# Altium integrated library Linear Technology Power Management Switching Regulator LTC1174-LTC3901.IntLib: 2647 symbols (part 302 of 364)
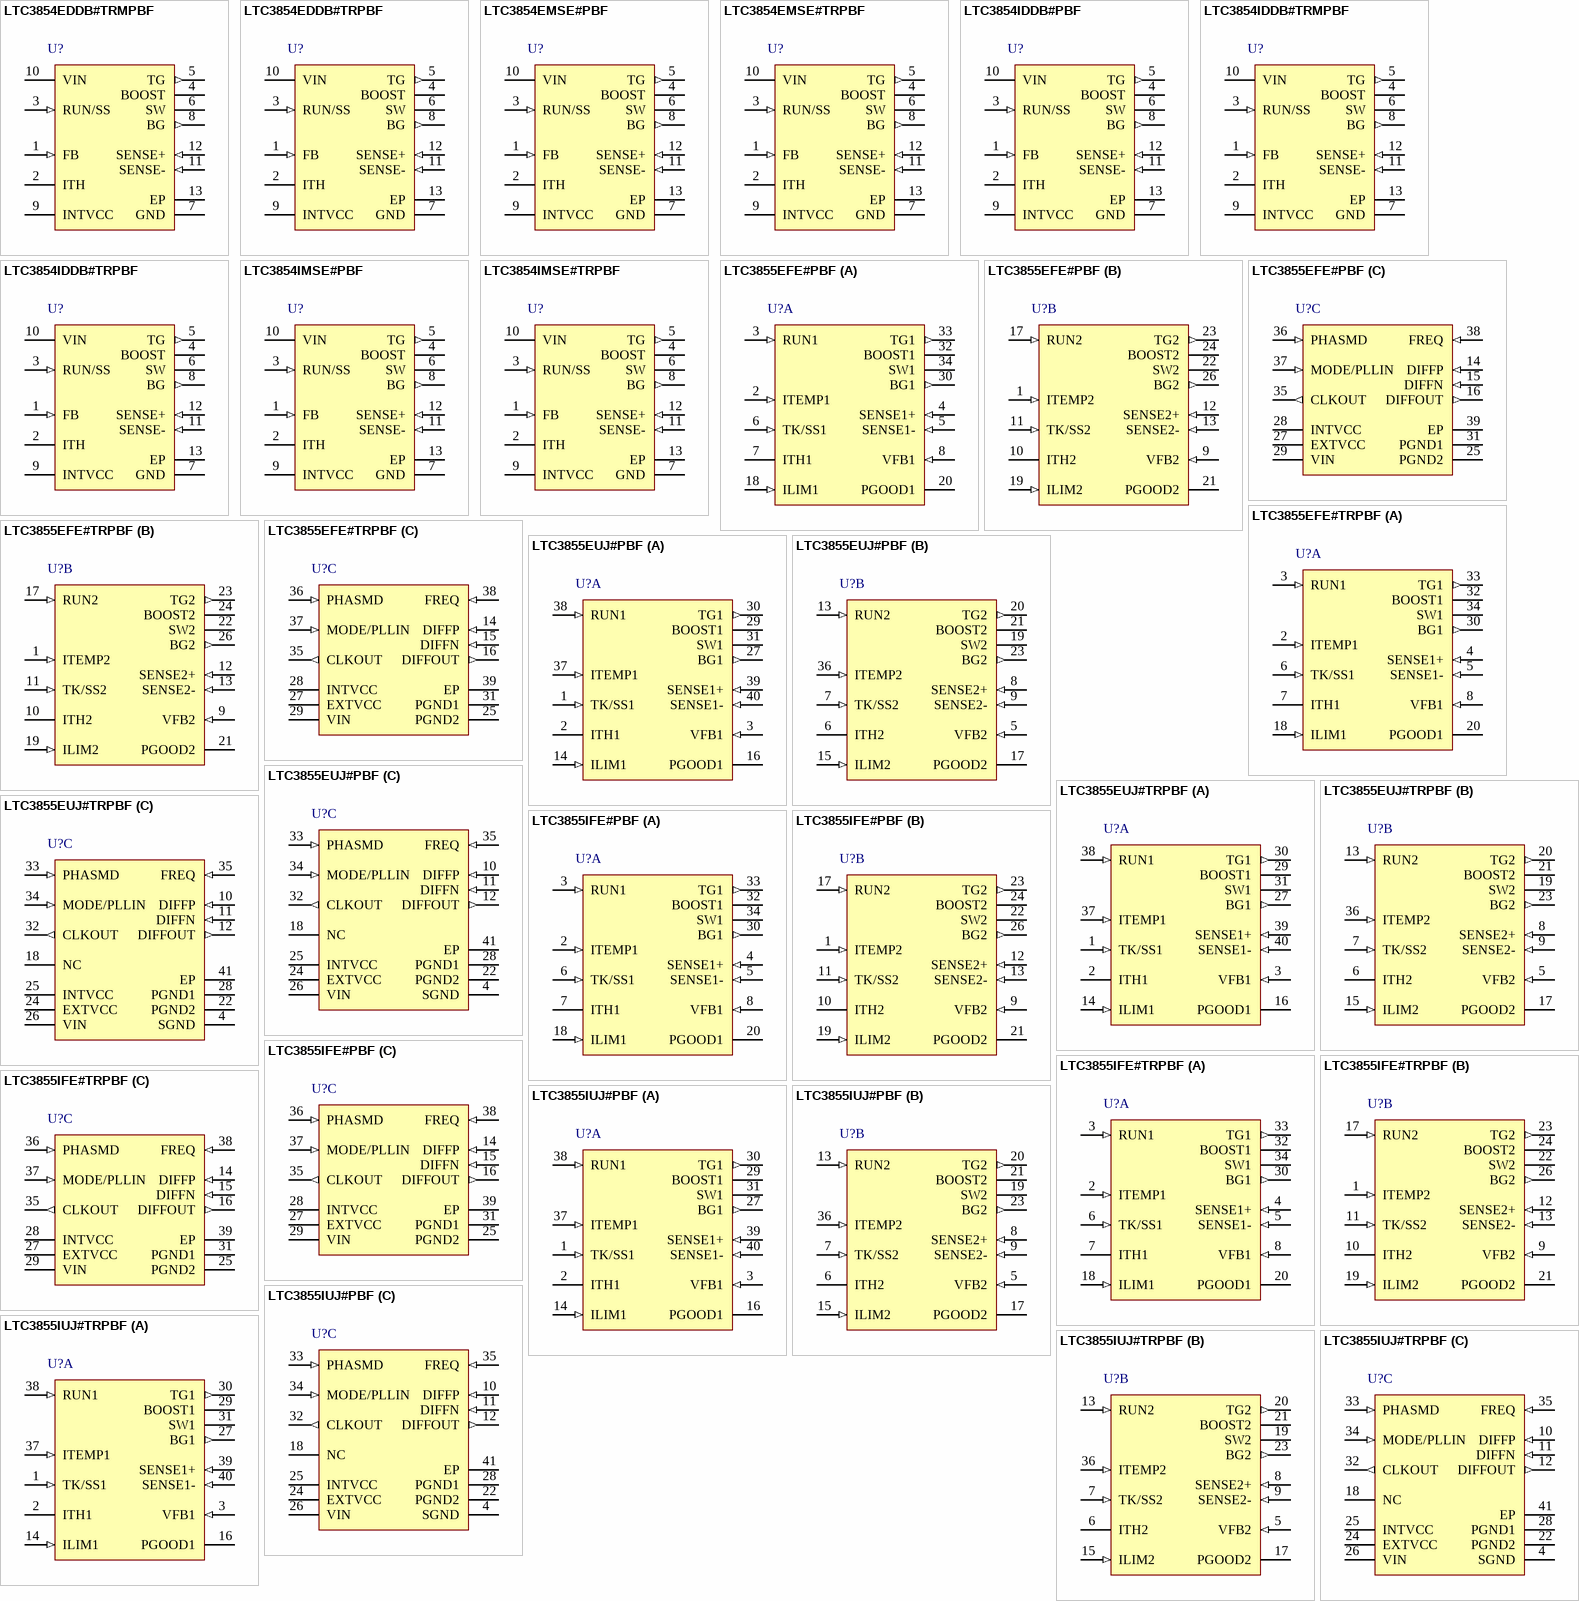
[diagram p273: symbols LTC3854EDDB#TRMPBF to LTC3855IUJ#TRPBF]

## LTC3854IDDB#PBF
designator U?
Small Package Range Synchronous Step-Down Controller, 4.5 to 38 V Vin, 12-pin SON (DDB-12), -40 to 85 degC, Pb-Free; Manufacturer: Linear Technology; PartNumber: LTC3854IDDB#PBF; Number of Outputs: 1; DatasheetVersion: Rev. B; PackageVersion: Rev. Ø, 06/2010; PackageReference: DDB-12; PackageDescription: 12-Pin Plastic DFN, Body 3 x 2 mm, Pitch 0.45 mm; Supplier 1: Newark; Supplier Part Number 1: 78T3268; RoHS: TRUE; Mounting Technology: Surface Mount; ComponentLink1Description: Manufacturer URL; ComponentLink1URL: http://www.linear.com/; ComponentLink2Description: Datasheet; ComponentLink2URL: http://cds.linear.com/docs/en/datasheet/3854fb.pdf; ComponentLink3Description: Package Specification; ComponentLink3URL: http://cds.linear.com/docs/en/packaging/DFN_12_05-08-1723.pdf
footprint LT-DDB-12_V (SON, 12-Leads, Body 3x2mm, Pitch 0.45mm, Thermal Pad 2.39x0.64mm)
pins: 1 FB (in) "Error Amplifier Feedback Input. This pin receives the remotely-sensed feedback voltage from an external resistor divider across the output.", 2 ITH "Error Amplifier Output and Switching Regulator Compensation Point. The current comparator trip point increases with this control voltage.", 3 RUN/SS (in) "Run Control, Soft-Start. If the voltage on this pin is held below 0.4V, the part is in shutdown. If the pin is released the capacitance to ground at this pin sets the soft-start ramp rate. An internal 1.25uA soft-start (See Datasheet)", 4 BOOST "Bootstrapped Supply to the Top Side Floating Driver. A low ESR capacitor is connected between the BOOST and SW pins and an external Schottky diode is tied between the BOOST and INTVCC pins. The voltage swing on the BOOST pin (See Datasheet)", 5 TG (out) "High Current Gate Drive for Top N-channel MOSFET. This is the output of floating driver with a voltage swing equal to INTVCC superimposed on the switch node voltage.", 6 SW "Switch Node Connection to Inductor. The voltage swing on this pin is from a Schottky diode (external) forward voltage (when this diode is added across the Nchannel synchronous MOSFET) below ground to VIN.", 7 GND (power) "Small Signal and Power Ground. This is the high current ground for the gate driver. The internal signal ground is Kelvin connected to this pin for noise suppression.", 8 BG (out) "High Current Gate Drive for Bottom (Synchronous) N-channel MOSFET. The voltage swing at this pin is from ground to INTVCC.", 9 INTVCC (power) "Output of the Internal 5V Low Dropout Regulator. The driver and control circuits are powered from this voltage. Must be decoupled to power ground with a minimum of 2.2uF low ESR ceramic capacitor (X5R or better).", 10 VIN (power) "Main Supply Pin. A bypass capacitor should be tied between this pin and the signal ground pin.", 11 SENSE- (in) "The (-) Input to the Differential Current Comparator.", 12 SENSE+ (in) "The (+) Input to the Differential Current Comparator. The ITH pin voltage and controlled offsets between the SENSE- and SENSE+ pins in conjunction with RSENSE (or RDCR) set the peak current trip threshold.", 13 EP (power) "The exposed pad must be soldered to PCB ground for electrical contact and rated thermal performance."

## LTC3854IDDB#TRMPBF
designator U?
Small Package Range Synchronous Step-Down Controller, 4.5 to 38 V Vin, 12-pin SON (DDB-12), -40 to 85 degC, Pb-Free, Tape and Reel; Manufacturer: Linear Technology; PartNumber: LTC3854IDDB#TRMPBF; Number of Outputs: 1; DatasheetVersion: Rev. B; PackageVersion: Rev. Ø, 06/2010; PackageReference: DDB-12; PackageDescription: 12-Pin Plastic DFN, Body 3 x 2 mm, Pitch 0.45 mm; Supplier 1: Digi-Key; Supplier Part Number 1: LTC3854IDDB#TRMPBF-ND; Packing: Tape and Reel; RoHS: TRUE; Mounting Technology: Surface Mount; ComponentLink1Description: Manufacturer URL; ComponentLink1URL: http://www.linear.com/; ComponentLink2Description: Datasheet; ComponentLink2URL: http://cds.linear.com/docs/en/datasheet/3854fb.pdf; ComponentLink3Description: Package Specification; ComponentLink3URL: http://cds.linear.com/docs/en/packaging/DFN_12_05-08-1723.pdf
footprint LT-DDB-12_V (SON, 12-Leads, Body 3x2mm, Pitch 0.45mm, Thermal Pad 2.39x0.64mm)
pins: 1 FB (in) "Error Amplifier Feedback Input. This pin receives the remotely-sensed feedback voltage from an external resistor divider across the output.", 2 ITH "Error Amplifier Output and Switching Regulator Compensation Point. The current comparator trip point increases with this control voltage.", 3 RUN/SS (in) "Run Control, Soft-Start. If the voltage on this pin is held below 0.4V, the part is in shutdown. If the pin is released the capacitance to ground at this pin sets the soft-start ramp rate. An internal 1.25uA soft-start (See Datasheet)", 4 BOOST "Bootstrapped Supply to the Top Side Floating Driver. A low ESR capacitor is connected between the BOOST and SW pins and an external Schottky diode is tied between the BOOST and INTVCC pins. The voltage swing on the BOOST pin (See Datasheet)", 5 TG (out) "High Current Gate Drive for Top N-channel MOSFET. This is the output of floating driver with a voltage swing equal to INTVCC superimposed on the switch node voltage.", 6 SW "Switch Node Connection to Inductor. The voltage swing on this pin is from a Schottky diode (external) forward voltage (when this diode is added across the Nchannel synchronous MOSFET) below ground to VIN.", 7 GND (power) "Small Signal and Power Ground. This is the high current ground for the gate driver. The internal signal ground is Kelvin connected to this pin for noise suppression.", 8 BG (out) "High Current Gate Drive for Bottom (Synchronous) N-channel MOSFET. The voltage swing at this pin is from ground to INTVCC.", 9 INTVCC (power) "Output of the Internal 5V Low Dropout Regulator. The driver and control circuits are powered from this voltage. Must be decoupled to power ground with a minimum of 2.2uF low ESR ceramic capacitor (X5R or better).", 10 VIN (power) "Main Supply Pin. A bypass capacitor should be tied between this pin and the signal ground pin.", 11 SENSE- (in) "The (-) Input to the Differential Current Comparator.", 12 SENSE+ (in) "The (+) Input to the Differential Current Comparator. The ITH pin voltage and controlled offsets between the SENSE- and SENSE+ pins in conjunction with RSENSE (or RDCR) set the peak current trip threshold.", 13 EP (power) "The exposed pad must be soldered to PCB ground for electrical contact and rated thermal performance."

## LTC3854IDDB#TRPBF
designator U?
Small Package Range Synchronous Step-Down Controller, 4.5 to 38 V Vin, 12-pin SON (DDB-12), -40 to 85 degC, Pb-Free, Tape and Reel; Manufacturer: Linear Technology; PartNumber: LTC3854IDDB#TRPBF; Number of Outputs: 1; DatasheetVersion: Rev. B; PackageVersion: Rev. Ø, 06/2010; PackageReference: DDB-12; PackageDescription: 12-Pin Plastic DFN, Body 3 x 2 mm, Pitch 0.45 mm; Supplier 1: Digi-Key; Supplier Part Number 1: LTC3854IDDB#TRPBF-ND; Packing: Tape and Reel; RoHS: TRUE; Mounting Technology: Surface Mount; ComponentLink1Description: Manufacturer URL; ComponentLink1URL: http://www.linear.com/; ComponentLink2Description: Datasheet; ComponentLink2URL: http://cds.linear.com/docs/en/datasheet/3854fb.pdf; ComponentLink3Description: Package Specification; ComponentLink3URL: http://cds.linear.com/docs/en/packaging/DFN_12_05-08-1723.pdf
footprint LT-DDB-12_V (SON, 12-Leads, Body 3x2mm, Pitch 0.45mm, Thermal Pad 2.39x0.64mm)
pins: 1 FB (in) "Error Amplifier Feedback Input. This pin receives the remotely-sensed feedback voltage from an external resistor divider across the output.", 2 ITH "Error Amplifier Output and Switching Regulator Compensation Point. The current comparator trip point increases with this control voltage.", 3 RUN/SS (in) "Run Control, Soft-Start. If the voltage on this pin is held below 0.4V, the part is in shutdown. If the pin is released the capacitance to ground at this pin sets the soft-start ramp rate. An internal 1.25uA soft-start (See Datasheet)", 4 BOOST "Bootstrapped Supply to the Top Side Floating Driver. A low ESR capacitor is connected between the BOOST and SW pins and an external Schottky diode is tied between the BOOST and INTVCC pins. The voltage swing on the BOOST pin (See Datasheet)", 5 TG (out) "High Current Gate Drive for Top N-channel MOSFET. This is the output of floating driver with a voltage swing equal to INTVCC superimposed on the switch node voltage.", 6 SW "Switch Node Connection to Inductor. The voltage swing on this pin is from a Schottky diode (external) forward voltage (when this diode is added across the Nchannel synchronous MOSFET) below ground to VIN.", 7 GND (power) "Small Signal and Power Ground. This is the high current ground for the gate driver. The internal signal ground is Kelvin connected to this pin for noise suppression.", 8 BG (out) "High Current Gate Drive for Bottom (Synchronous) N-channel MOSFET. The voltage swing at this pin is from ground to INTVCC.", 9 INTVCC (power) "Output of the Internal 5V Low Dropout Regulator. The driver and control circuits are powered from this voltage. Must be decoupled to power ground with a minimum of 2.2uF low ESR ceramic capacitor (X5R or better).", 10 VIN (power) "Main Supply Pin. A bypass capacitor should be tied between this pin and the signal ground pin.", 11 SENSE- (in) "The (-) Input to the Differential Current Comparator.", 12 SENSE+ (in) "The (+) Input to the Differential Current Comparator. The ITH pin voltage and controlled offsets between the SENSE- and SENSE+ pins in conjunction with RSENSE (or RDCR) set the peak current trip threshold.", 13 EP (power) "The exposed pad must be soldered to PCB ground for electrical contact and rated thermal performance."

## LTC3854IMSE#PBF
designator U?
Small Package Range Synchronous Step-Down Controller, 4.5 to 38 V Vin, 12-pin SOP (MSE-12-EDP), -40 to 85 degC, Pb-Free; Manufacturer: Linear Technology; PartNumber: LTC3854IMSE#PBF; Number of Outputs: 1; DatasheetVersion: Rev. B; PackageVersion: Rev. G, 05/2013; PackageReference: MSE-12-EDP; PackageDescription: 12-Pin Plastic MSOP, Exposed Die Pad, Body 4.039 x 3 mm, Pitch 0.65 mm; Supplier 1: Digi-Key; Supplier Part Number 1: LTC3854IMSE#PBF-ND; Supplier 2: Newark; Supplier Part Number 2: 24R6618; RoHS: TRUE; Mounting Technology: Surface Mount; ComponentLink1Description: Manufacturer URL; ComponentLink1URL: http://www.linear.com/; ComponentLink2Description: Datasheet; ComponentLink2URL: http://cds.linear.com/docs/en/datasheet/3854fb.pdf; ComponentLink3Description: Package Specification; ComponentLink3URL: http://cds.linear.com/docs/en/packaging/05081666_G_MSE12.pdf
footprint LT-MSE-12-EDP_N (SOP, 12-Leads, Body 4.1x3.1mm, Pitch 0.65mm, Thermal Pad 2.95x1.76mm, IPC Medium Density)
footprint LT-MSE-12-EDP_L (SOP, 12-Leads, Body 4.1x3.1mm, Pitch 0.65mm, Thermal Pad 2.95x1.76mm, IPC High Density)
footprint LT-MSE-12-EDP_M (SOP, 12-Leads, Body 4.1x3.1mm, Pitch 0.65mm, Thermal Pad 2.95x1.76mm, IPC Low Density)
pins: 1 FB (in) "Error Amplifier Feedback Input. This pin receives the remotely-sensed feedback voltage from an external resistor divider across the output.", 2 ITH "Error Amplifier Output and Switching Regulator Compensation Point. The current comparator trip point increases with this control voltage.", 3 RUN/SS (in) "Run Control, Soft-Start. If the voltage on this pin is held below 0.4V, the part is in shutdown. If the pin is released the capacitance to ground at this pin sets the soft-start ramp rate. An internal 1.25uA soft-start (See Datasheet)", 4 BOOST "Bootstrapped Supply to the Top Side Floating Driver. A low ESR capacitor is connected between the BOOST and SW pins and an external Schottky diode is tied between the BOOST and INTVCC pins. The voltage swing on the BOOST pin (See Datasheet)", 5 TG (out) "High Current Gate Drive for Top N-channel MOSFET. This is the output of floating driver with a voltage swing equal to INTVCC superimposed on the switch node voltage.", 6 SW "Switch Node Connection to Inductor. The voltage swing on this pin is from a Schottky diode (external) forward voltage (when this diode is added across the Nchannel synchronous MOSFET) below ground to VIN.", 7 GND (power) "Small Signal and Power Ground. This is the high current ground for the gate driver. The internal signal ground is Kelvin connected to this pin for noise suppression.", 8 BG (out) "High Current Gate Drive for Bottom (Synchronous) N-channel MOSFET. The voltage swing at this pin is from ground to INTVCC.", 9 INTVCC (power) "Output of the Internal 5V Low Dropout Regulator. The driver and control circuits are powered from this voltage. Must be decoupled to power ground with a minimum of 2.2uF low ESR ceramic capacitor (X5R or better).", 10 VIN (power) "Main Supply Pin. A bypass capacitor should be tied between this pin and the signal ground pin.", 11 SENSE- (in) "The (-) Input to the Differential Current Comparator.", 12 SENSE+ (in) "The (+) Input to the Differential Current Comparator. The ITH pin voltage and controlled offsets between the SENSE- and SENSE+ pins in conjunction with RSENSE (or RDCR) set the peak current trip threshold.", 13 EP (power) "The exposed pad must be soldered to PCB ground for electrical contact and rated thermal performance."

## LTC3854IMSE#TRPBF
designator U?
Small Package Range Synchronous Step-Down Controller, 4.5 to 38 V Vin, 12-pin SOP (MSE-12-EDP), -40 to 85 degC, Pb-Free, Tape and Reel; Manufacturer: Linear Technology; PartNumber: LTC3854IMSE#TRPBF; Number of Outputs: 1; DatasheetVersion: Rev. B; PackageVersion: Rev. G, 05/2013; PackageReference: MSE-12-EDP; PackageDescription: 12-Pin Plastic MSOP, Exposed Die Pad, Body 4.039 x 3 mm, Pitch 0.65 mm; Supplier 1: Digi-Key; Supplier Part Number 1: LTC3854IMSE#TRPBF-ND; Supplier 2: Newark; Supplier Part Number 2: 24R6619; Packing: Tape and Reel; RoHS: TRUE; Mounting Technology: Surface Mount; ComponentLink1Description: Manufacturer URL; ComponentLink1URL: http://www.linear.com/; ComponentLink2Description: Datasheet; ComponentLink2URL: http://cds.linear.com/docs/en/datasheet/3854fb.pdf; ComponentLink3Description: Package Specification; ComponentLink3URL: http://cds.linear.com/docs/en/packaging/05081666_G_MSE12.pdf
footprint LT-MSE-12-EDP_N (SOP, 12-Leads, Body 4.1x3.1mm, Pitch 0.65mm, Thermal Pad 2.95x1.76mm, IPC Medium Density)
footprint LT-MSE-12-EDP_L (SOP, 12-Leads, Body 4.1x3.1mm, Pitch 0.65mm, Thermal Pad 2.95x1.76mm, IPC High Density)
footprint LT-MSE-12-EDP_M (SOP, 12-Leads, Body 4.1x3.1mm, Pitch 0.65mm, Thermal Pad 2.95x1.76mm, IPC Low Density)
pins: 1 FB (in) "Error Amplifier Feedback Input. This pin receives the remotely-sensed feedback voltage from an external resistor divider across the output.", 2 ITH "Error Amplifier Output and Switching Regulator Compensation Point. The current comparator trip point increases with this control voltage.", 3 RUN/SS (in) "Run Control, Soft-Start. If the voltage on this pin is held below 0.4V, the part is in shutdown. If the pin is released the capacitance to ground at this pin sets the soft-start ramp rate. An internal 1.25uA soft-start (See Datasheet)", 4 BOOST "Bootstrapped Supply to the Top Side Floating Driver. A low ESR capacitor is connected between the BOOST and SW pins and an external Schottky diode is tied between the BOOST and INTVCC pins. The voltage swing on the BOOST pin (See Datasheet)", 5 TG (out) "High Current Gate Drive for Top N-channel MOSFET. This is the output of floating driver with a voltage swing equal to INTVCC superimposed on the switch node voltage.", 6 SW "Switch Node Connection to Inductor. The voltage swing on this pin is from a Schottky diode (external) forward voltage (when this diode is added across the Nchannel synchronous MOSFET) below ground to VIN.", 7 GND (power) "Small Signal and Power Ground. This is the high current ground for the gate driver. The internal signal ground is Kelvin connected to this pin for noise suppression.", 8 BG (out) "High Current Gate Drive for Bottom (Synchronous) N-channel MOSFET. The voltage swing at this pin is from ground to INTVCC.", 9 INTVCC (power) "Output of the Internal 5V Low Dropout Regulator. The driver and control circuits are powered from this voltage. Must be decoupled to power ground with a minimum of 2.2uF low ESR ceramic capacitor (X5R or better).", 10 VIN (power) "Main Supply Pin. A bypass capacitor should be tied between this pin and the signal ground pin.", 11 SENSE- (in) "The (-) Input to the Differential Current Comparator.", 12 SENSE+ (in) "The (+) Input to the Differential Current Comparator. The ITH pin voltage and controlled offsets between the SENSE- and SENSE+ pins in conjunction with RSENSE (or RDCR) set the peak current trip threshold.", 13 EP (power) "The exposed pad must be soldered to PCB ground for electrical contact and rated thermal performance."

## LTC3855EFE#PBF
designator U?
Dual, Multiphase Synchronous DC/DC Controller with Differential Remote Sense, 38-pin SOP (FE-38-EPV-AA), -40 to 85 degC, Pb-Free; Manufacturer: Linear Technology; PartNumber: LTC3855EFE#PBF; Frequency Sync Range: 250kHz - 770kHz; Number of Outputs: 2; PackageVersion: Rev. C, 09/2010; PackageReference: FE-38; PackageDescription: 38-Pin Plastic TSSOP, Body 9.7 x 4.4 mm, Pitch 0.5 mm; Supplier 1: Digi-Key; Supplier Part Number 1: LTC3855EFE#PBF-ND; Supplier 2: Farnell; Supplier Part Number 2: 1839260; Supplier 3: Newark; Supplier Part Number 3: 51R1513; RoHS: TRUE; Mounting Technology: Surface Mount; ComponentLink1Description: Manufacturer URL; ComponentLink1URL: http://www.linear.com/; ComponentLink2Description: Datasheet; ComponentLink2URL: http://cds.linear.com/docs/en/datasheet/3855f.pdf; ComponentLink3Description: Package Specification; ComponentLink3URL: http://cds.linear.com/docs/en/packaging/TSSOP_38_05-08-1772.pdf
footprint LT-FE-38-EPV-AA_N (SOP, 38-Leads, Body 9.8x4.5mm, Pitch 0.5mm, Thermal Pad 4.75x2.74mm, IPC Medium Density)
footprint LT-FE-38-EPV-AA_L (SOP, 38-Leads, Body 9.8x4.5mm, Pitch 0.5mm, Thermal Pad 4.75x2.74mm, IPC High Density)
footprint LT-FE-38-EPV-AA_M (SOP, 38-Leads, Body 9.8x4.5mm, Pitch 0.5mm, Thermal Pad 4.75x2.74mm, IPC Low Density)
part A pins: 2 ITEMP1 (in) "Inputs of the temperature sensing comparators. Connect each of these pins to external NTC resistors placed near inductors. Floating these pins disables the DCR temperature compensation function.", 3 RUN1 (in) "Run Control Inputs. A voltage above 1.2V on either pin turns on the IC. However, forcing either of these pins below 1.2V causes the IC to shut down the circuitry required for that particular channel. There are 1uA pull-up (See Datasheet)", 4 SENSE1+ (in) "Current Sense Comparator Inputs. The (+) inputs to the current comparators are normally connected to DCR sensing networks or current sensing resistors.", 5 SENSE1- (in) "Current Sense Comparator Inputs. The (-) inputs to the current comparators are connected to the outputs.", 6 TK/SS1 (in) "Output Voltage Tracking and Soft-Start Inputs. When one particular channel is configured to be the master of two channels, a capacitor to ground at this pin sets the ramp rate for the master channel’s output voltage. Whe(See Datasheet)", 7 ITH1 "Current Control Thresholds and Error Amplifier Compensation Points. Each associated channels?current comparator tripping threshold increases with its ITH control voltage.", 8 VFB1 (in) "Error Amplifier Feedback Inputs. These pins receive the remotely sensed feedback voltages for each channel from external resistive dividers across the outputs.", 18 ILIM1 (in) "Current Comparator Sense Voltage Range Inputs. This pin can be tied to SGND, tied to INTVCC or left floating to set the maximum current sense threshold for each comparator", 20 PGOOD1 (oc) "Power Good Indicator Output for Each Channel. Open drain logic out that is pulled to ground when either channel output exceeds +/-10% regulation window, after the internal 20us power bad mask timer expires.", 30 BG1 (out) "Bottom Gate Driver Outputs. These pins drive the gates of the bottom N-Channel MOSFETs between PGND and INTVCC", 32 BOOST1 "Boosted Floating Driver Supplies. The (+) terminal of the bootstrap capacitors connect to these pins. These pins swing from a diode voltage drop below INTVCC up to VIN + INTVCC", 33 TG1 (out) "Top Gate Driver Outputs. These are the outputs of floating drivers with a voltage swing equal to INTVCC superimposed on the switch nodes voltages.", 34 SW1 "Switch Node Connections to Inductors. Voltage swing at these pins is from a Schottky diode (external) voltage drop below ground to VIN."
part B pins: 1 ITEMP2 (in) "Inputs of the temperature sensing comparators. Connect each of these pins to external NTC resistors placed near inductors. Floating these pins disables the DCR temperature compensation function.", 9 VFB2 (in) "Error Amplifier Feedback Inputs. These pins receive the remotely sensed feedback voltages for each channel from external resistive dividers across the outputs.", 10 ITH2 "Current Control Thresholds and Error Amplifier Compensation Points. Each associated channels?current comparator tripping threshold increases with its ITH control voltage.", 11 TK/SS2 (in) "Output Voltage Tracking and Soft-Start Inputs. When one particular channel is configured to be the master of two channels, a capacitor to ground at this pin sets the ramp rate for the master channel’s output voltage. Whe(See Datasheet)", 12 SENSE2+ (in) "Current Sense Comparator Inputs. The (+) inputs to the current comparators are normally connected to DCR sensing networks or current sensing resistors.", 13 SENSE2- (in) "Current Sense Comparator Inputs. The (-) inputs to the current comparators are connected to the outputs.", 17 RUN2 (in) "Run Control Inputs. A voltage above 1.2V on either pin turns on the IC. However, forcing either of these pins below 1.2V causes the IC to shut down the circuitry required for that particular channel. There are 1uA pull-up (See Datasheet)", 19 ILIM2 (in) "Current Comparator Sense Voltage Range Inputs. This pin can be tied to SGND, tied to INTVCC or left floating to set the maximum current sense threshold for each comparator", 21 PGOOD2 (oc) "Power Good Indicator Output for Each Channel. Open drain logic out that is pulled to ground when either channel output exceeds +/-10% regulation window, after the internal 20us power bad mask timer expires.", 22 SW2 "Switch Node Connections to Inductors. Voltage swing at these pins is from a Schottky diode (external) voltage drop below ground to VIN.", 23 TG2 (out) "Top Gate Driver Outputs. These are the outputs of floating drivers with a voltage swing equal to INTVCC superimposed on the switch nodes voltages.", 24 BOOST2 "Boosted Floating Driver Supplies. The (+) terminal of the bootstrap capacitors connect to these pins. These pins swing from a diode voltage drop below INTVCC up to VIN + INTVCC", 26 BG2 (out) "Bottom Gate Driver Outputs. These pins drive the gates of the bottom N-Channel MOSFETs between PGND and INTVCC"
part C pins: 14 DIFFP (in) "Positive Input of Remote Sensing Differential Amplifier. Connect this to the remote load voltage of one of the two channels directly.", 15 DIFFN (in) "Negative Input of Remote Sensing Differential Amplifier. Connect this to the negative terminal of the output capacitors.", 16 DIFFOUT (out) "Output of Remote Sensing Differential Amplifier. Connect this to VFB1 or VFB2 through a resistive divider.", 25 PGND2 (power) "Power Ground Pin. Connect this pin closely to the sources of the bottom N-channel MOSFETs, the (-) terminal of CVCC and the (-) terminal of CIN.", 27 EXTVCC (power) "External Power Input to an Internal Switch Connected to INTVCC. This switch closes and supplies the IC power, bypassing the internal low dropout regulator, whenever EXTVCC is higher than 4.7V. Do not exceed 6V on this pin.", 28 INTVCC (power) "Internal 5V Regulator Output. The control circuits are powered from this voltage. Decouple this pin to PGND with a minimum of 4.7uF low ESR tantalum or ceramic capacitor.", 29 VIN (power) "Main Input Supply. Decouple this pin to PGND with a capacitor (0.1uF to 1uF).", 31 PGND1 (power) "Power Ground Pin. Connect this pin closely to the sources of the bottom N-channel MOSFETs, the (-) terminal of CVCC and the (-) terminal of CIN.", 35 CLKOUT (out) "Clock output with phase changeable by PHASMD to enable usage of multiple LTC3855 in multiphase systems.", 36 PHASMD (in) "This pin can be tied to SGND, tied to INTVCC or left floating. This pin determines the relative phases between the internal controllers as well as the phasing of the CLKOUT signal. See Table 1 in the Operation section.", 37 MODE/PLLIN (in) "This is a dual purpose pin. When external frequency synchronization is not used, this pin selects the operating mode. The pin can be tied to SGND, tied to INTVCC or left floating. SGND enables forced continuous mode. INTVCC (See Datasheet)", 38 FREQ (in) "There is a precision 10uA current flowing out of this pin. A resistor to ground sets a voltage which in turn programs the frequency. Alternatively, this pin can be driven with a DC voltage to vary the frequency of the (See Datasheet)", 39 EP (power) "Signal Ground. All small-signal components and compensation components should connect to this ground, which in turn connects to PGND at one point. Exposed pad must be soldered to PCB, providing a local ground for the control (See Datasheet)"

## LTC3855EFE#TRPBF
designator U?
Dual, Multiphase Synchronous DC/DC Controller with Differential Remote Sense, 38-pin SOP (FE-38-EPV-AA), -40 to 85 degC, Pb-Free, Tape and Reel; Manufacturer: Linear Technology; PartNumber: LTC3855EFE#TRPBF; Frequency Sync Range: 250kHz - 770kHz; Number of Outputs: 2; PackageVersion: Rev. C, 09/2010; PackageReference: FE-38; PackageDescription: 38-Pin Plastic TSSOP, Body 9.7 x 4.4 mm, Pitch 0.5 mm; Supplier 1: Digi-Key; Supplier Part Number 1: LTC3855EFE#TRPBF-ND; Packing: Tape and Reel; RoHS: TRUE; Mounting Technology: Surface Mount; ComponentLink1Description: Manufacturer URL; ComponentLink1URL: http://www.linear.com/; ComponentLink2Description: Datasheet; ComponentLink2URL: http://cds.linear.com/docs/en/datasheet/3855f.pdf; ComponentLink3Description: Package Specification; ComponentLink3URL: http://cds.linear.com/docs/en/packaging/TSSOP_38_05-08-1772.pdf
footprint LT-FE-38-EPV-AA_N (SOP, 38-Leads, Body 9.8x4.5mm, Pitch 0.5mm, Thermal Pad 4.75x2.74mm, IPC Medium Density)
footprint LT-FE-38-EPV-AA_L (SOP, 38-Leads, Body 9.8x4.5mm, Pitch 0.5mm, Thermal Pad 4.75x2.74mm, IPC High Density)
footprint LT-FE-38-EPV-AA_M (SOP, 38-Leads, Body 9.8x4.5mm, Pitch 0.5mm, Thermal Pad 4.75x2.74mm, IPC Low Density)
part A pins: 2 ITEMP1 (in) "Inputs of the temperature sensing comparators. Connect each of these pins to external NTC resistors placed near inductors. Floating these pins disables the DCR temperature compensation function.", 3 RUN1 (in) "Run Control Inputs. A voltage above 1.2V on either pin turns on the IC. However, forcing either of these pins below 1.2V causes the IC to shut down the circuitry required for that particular channel. There are 1uA pull-up (See Datasheet)", 4 SENSE1+ (in) "Current Sense Comparator Inputs. The (+) inputs to the current comparators are normally connected to DCR sensing networks or current sensing resistors.", 5 SENSE1- (in) "Current Sense Comparator Inputs. The (-) inputs to the current comparators are connected to the outputs.", 6 TK/SS1 (in) "Output Voltage Tracking and Soft-Start Inputs. When one particular channel is configured to be the master of two channels, a capacitor to ground at this pin sets the ramp rate for the master channel’s output voltage. Whe(See Datasheet)", 7 ITH1 "Current Control Thresholds and Error Amplifier Compensation Points. Each associated channels?current comparator tripping threshold increases with its ITH control voltage.", 8 VFB1 (in) "Error Amplifier Feedback Inputs. These pins receive the remotely sensed feedback voltages for each channel from external resistive dividers across the outputs.", 18 ILIM1 (in) "Current Comparator Sense Voltage Range Inputs. This pin can be tied to SGND, tied to INTVCC or left floating to set the maximum current sense threshold for each comparator", 20 PGOOD1 (oc) "Power Good Indicator Output for Each Channel. Open drain logic out that is pulled to ground when either channel output exceeds +/-10% regulation window, after the internal 20us power bad mask timer expires.", 30 BG1 (out) "Bottom Gate Driver Outputs. These pins drive the gates of the bottom N-Channel MOSFETs between PGND and INTVCC", 32 BOOST1 "Boosted Floating Driver Supplies. The (+) terminal of the bootstrap capacitors connect to these pins. These pins swing from a diode voltage drop below INTVCC up to VIN + INTVCC", 33 TG1 (out) "Top Gate Driver Outputs. These are the outputs of floating drivers with a voltage swing equal to INTVCC superimposed on the switch nodes voltages.", 34 SW1 "Switch Node Connections to Inductors. Voltage swing at these pins is from a Schottky diode (external) voltage drop below ground to VIN."
part B pins: 1 ITEMP2 (in) "Inputs of the temperature sensing comparators. Connect each of these pins to external NTC resistors placed near inductors. Floating these pins disables the DCR temperature compensation function.", 9 VFB2 (in) "Error Amplifier Feedback Inputs. These pins receive the remotely sensed feedback voltages for each channel from external resistive dividers across the outputs.", 10 ITH2 "Current Control Thresholds and Error Amplifier Compensation Points. Each associated channels?current comparator tripping threshold increases with its ITH control voltage.", 11 TK/SS2 (in) "Output Voltage Tracking and Soft-Start Inputs. When one particular channel is configured to be the master of two channels, a capacitor to ground at this pin sets the ramp rate for the master channel’s output voltage. Whe(See Datasheet)", 12 SENSE2+ (in) "Current Sense Comparator Inputs. The (+) inputs to the current comparators are normally connected to DCR sensing networks or current sensing resistors.", 13 SENSE2- (in) "Current Sense Comparator Inputs. The (-) inputs to the current comparators are connected to the outputs.", 17 RUN2 (in) "Run Control Inputs. A voltage above 1.2V on either pin turns on the IC. However, forcing either of these pins below 1.2V causes the IC to shut down the circuitry required for that particular channel. There are 1uA pull-up (See Datasheet)", 19 ILIM2 (in) "Current Comparator Sense Voltage Range Inputs. This pin can be tied to SGND, tied to INTVCC or left floating to set the maximum current sense threshold for each comparator", 21 PGOOD2 (oc) "Power Good Indicator Output for Each Channel. Open drain logic out that is pulled to ground when either channel output exceeds +/-10% regulation window, after the internal 20us power bad mask timer expires.", 22 SW2 "Switch Node Connections to Inductors. Voltage swing at these pins is from a Schottky diode (external) voltage drop below ground to VIN.", 23 TG2 (out) "Top Gate Driver Outputs. These are the outputs of floating drivers with a voltage swing equal to INTVCC superimposed on the switch nodes voltages.", 24 BOOST2 "Boosted Floating Driver Supplies. The (+) terminal of the bootstrap capacitors connect to these pins. These pins swing from a diode voltage drop below INTVCC up to VIN + INTVCC", 26 BG2 (out) "Bottom Gate Driver Outputs. These pins drive the gates of the bottom N-Channel MOSFETs between PGND and INTVCC"
part C pins: 14 DIFFP (in) "Positive Input of Remote Sensing Differential Amplifier. Connect this to the remote load voltage of one of the two channels directly.", 15 DIFFN (in) "Negative Input of Remote Sensing Differential Amplifier. Connect this to the negative terminal of the output capacitors.", 16 DIFFOUT (out) "Output of Remote Sensing Differential Amplifier. Connect this to VFB1 or VFB2 through a resistive divider.", 25 PGND2 (power) "Power Ground Pin. Connect this pin closely to the sources of the bottom N-channel MOSFETs, the (-) terminal of CVCC and the (-) terminal of CIN.", 27 EXTVCC (power) "External Power Input to an Internal Switch Connected to INTVCC. This switch closes and supplies the IC power, bypassing the internal low dropout regulator, whenever EXTVCC is higher than 4.7V. Do not exceed 6V on this pin.", 28 INTVCC (power) "Internal 5V Regulator Output. The control circuits are powered from this voltage. Decouple this pin to PGND with a minimum of 4.7uF low ESR tantalum or ceramic capacitor.", 29 VIN (power) "Main Input Supply. Decouple this pin to PGND with a capacitor (0.1uF to 1uF).", 31 PGND1 (power) "Power Ground Pin. Connect this pin closely to the sources of the bottom N-channel MOSFETs, the (-) terminal of CVCC and the (-) terminal of CIN.", 35 CLKOUT (out) "Clock output with phase changeable by PHASMD to enable usage of multiple LTC3855 in multiphase systems.", 36 PHASMD (in) "This pin can be tied to SGND, tied to INTVCC or left floating. This pin determines the relative phases between the internal controllers as well as the phasing of the CLKOUT signal. See Table 1 in the Operation section.", 37 MODE/PLLIN (in) "This is a dual purpose pin. When external frequency synchronization is not used, this pin selects the operating mode. The pin can be tied to SGND, tied to INTVCC or left floating. SGND enables forced continuous mode. INTVCC (See Datasheet)", 38 FREQ (in) "There is a precision 10uA current flowing out of this pin. A resistor to ground sets a voltage which in turn programs the frequency. Alternatively, this pin can be driven with a DC voltage to vary the frequency of the (See Datasheet)", 39 EP (power) "Signal Ground. All small-signal components and compensation components should connect to this ground, which in turn connects to PGND at one point. Exposed pad must be soldered to PCB, providing a local ground for the control (See Datasheet)"

## LTC3855EUJ#PBF
designator U?
Dual, Multiphase Synchronous DC/DC Controller with Differential Remote Sense, 40-pin QFN (UJ-40), -40 to 85 degC, Pb-Free; Manufacturer: Linear Technology; PartNumber: LTC3855EUJ#PBF; Frequency Sync Range: 250kHz - 770kHz; Number of Outputs: 2; PackageVersion: Rev. Ø, 06/2010; PackageReference: UJ-40; PackageDescription: 40-Pin Plastic QFN, Body 6 x 6 mm, Pitch 0.5 mm; Supplier 1: Digi-Key; Supplier Part Number 1: LTC3855EUJ#PBF-ND; Supplier 2: Farnell; Supplier Part Number 2: 1839261; Supplier 3: Newark; Supplier Part Number 3: 51R1514; RoHS: TRUE; Mounting Technology: Surface Mount; ComponentLink1Description: Manufacturer URL; ComponentLink1URL: http://www.linear.com/; ComponentLink2Description: Datasheet; ComponentLink2URL: http://cds.linear.com/docs/en/datasheet/3855f.pdf; ComponentLink3Description: Package Specification; ComponentLink3URL: http://cds.linear.com/docs/en/packaging/QFN_40_05-08-1728.pdf
footprint LT-UJ-40_N (QFN, 40-Leads, Body 6.1x6.1mm, Pitch 0.5mm, Thermal Pad 4.42x4.42mm, IPC Medium Density)
footprint LT-UJ-40_L (QFN, 40-Leads, Body 6.1x6.1mm, Pitch 0.5mm, Thermal Pad 4.42x4.42mm, IPC High Density)
footprint LT-UJ-40_M (QFN, 40-Leads, Body 6.1x6.1mm, Pitch 0.5mm, Thermal Pad 4.42x4.42mm, IPC Low Density)
part A pins: 1 TK/SS1 (in) "Output Voltage Tracking and Soft-Start Inputs. When one particular channel is configured to be the master of two channels, a capacitor to ground at this pin sets the ramp rate for the master channel¡¯s output voltage. Whe(See Datasheet)", 2 ITH1 "Current Control Thresholds and Error Amplifier Compensation Points. Each associated channels¡¯ current comparator tripping threshold increases with its ITH control voltage.", 3 VFB1 (in) "Error Amplifier Feedback Inputs. These pins receive the remotely sensed feedback voltages for each channel from external resistive dividers across the outputs.", 14 ILIM1 (in) "Current Comparator Sense Voltage Range Inputs. This pin can be tied to SGND, tied to INTVCC or left floating to set the maximum current sense threshold for each comparator", 16 PGOOD1 (oc) "Power Good Indicator Output for Each Channel. Open drain logic out that is pulled to ground when either channel output exceeds +/-10% regulation window, after the internal 20us power bad mask timer expires.", 27 BG1 (out) "Bottom Gate Driver Outputs. These pins drive the gates of the bottom N-Channel MOSFETs between PGND and INTVCC", 29 BOOST1 "Boosted Floating Driver Supplies. The (+) terminal of the bootstrap capacitors connect to these pins. These pins swing from a diode voltage drop below INTVCC up to VIN + INTVCC", 30 TG1 (out) "Top Gate Driver Outputs. These are the outputs of floating drivers with a voltage swing equal to INTVCC superimposed on the switch nodes voltages.", 31 SW1 "Switch Node Connections to Inductors. Voltage swing at these pins is from a Schottky diode (external) voltage drop below ground to VIN.", 37 ITEMP1 (in) "Inputs of the temperature sensing comparators. Connect each of these pins to external NTC resistors placed near inductors. Floating these pins disables the DCR temperature compensation function.", 38 RUN1 (in) "Run Control Inputs. A voltage above 1.2V on either pin turns on the IC. However, forcing either of these pins below 1.2V causes the IC to shut down the circuitry required for that particular channel. There are 1uA pull-up (See Datasheet)", 39 SENSE1+ (in) "Current Sense Comparator Inputs. The (+) inputs to the current comparators are normally connected to DCR sensing networks or current sensing resistors.", 40 SENSE1- (in) "Current Sense Comparator Inputs. The (-) inputs to the current comparators are connected to the outputs."
part B pins: 5 VFB2 (in) "Error Amplifier Feedback Inputs. These pins receive the remotely sensed feedback voltages for each channel from external resistive dividers across the outputs.", 6 ITH2 "Current Control Thresholds and Error Amplifier Compensation Points. Each associated channels¡¯ current comparator tripping threshold increases with its ITH control voltage.", 7 TK/SS2 (in) "Output Voltage Tracking and Soft-Start Inputs. When one particular channel is configured to be the master of two channels, a capacitor to ground at this pin sets the ramp rate for the master channel¡¯s output voltage. Whe(See Datasheet)", 8 SENSE2+ (in) "Current Sense Comparator Inputs. The (+) inputs to the current comparators are normally connected to DCR sensing networks or current sensing resistors.", 9 SENSE2- (in) "Current Sense Comparator Inputs. The (-) inputs to the current comparators are connected to the outputs.", 13 RUN2 (in) "Run Control Inputs. A voltage above 1.2V on either pin turns on the IC. However, forcing either of these pins below 1.2V causes the IC to shut down the circuitry required for that particular channel. There are 1uA pull-up (See Datasheet)", 15 ILIM2 (in) "Current Comparator Sense Voltage Range Inputs. This pin can be tied to SGND, tied to INTVCC or left floating to set the maximum current sense threshold for each comparator", 17 PGOOD2 (oc) "Power Good Indicator Output for Each Channel. Open drain logic out that is pulled to ground when either channel output exceeds +/-10% regulation window, after the internal 20us power bad mask timer expires.", 19 SW2 "Switch Node Connections to Inductors. Voltage swing at these pins is from a Schottky diode (external) voltage drop below ground to VIN.", 20 TG2 (out) "Top Gate Driver Outputs. These are the outputs of floating drivers with a voltage swing equal to INTVCC superimposed on the switch nodes voltages.", 21 BOOST2 "Boosted Floating Driver Supplies. The (+) terminal of the bootstrap capacitors connect to these pins. These pins swing from a diode voltage drop below INTVCC up to VIN + INTVCC", 23 BG2 (out) "Bottom Gate Driver Outputs. These pins drive the gates of the bottom N-Channel MOSFETs between PGND and INTVCC", 36 ITEMP2 (in) "Inputs of the temperature sensing comparators. Connect each of these pins to external NTC resistors placed near inductors. Floating these pins disables the DCR temperature compensation function."
part C pins: 4 SGND (power) "Signal Ground. All small-signal components and compensation components should connect to this ground, which in turn connects to PGND at one point. Exposed pad must be soldered to PCB, providing a local ground for the control (See Datasheet)", 10 DIFFP (in) "Positive Input of Remote Sensing Differential Amplifier. Connect this to the remote load voltage of one of the two channels directly.", 11 DIFFN (in) "Negative Input of Remote Sensing Differential Amplifier. Connect this to the negative terminal of the output capacitors.", 12 DIFFOUT (out) "Output of Remote Sensing Differential Amplifier. Connect this to VFB1 or VFB2 through a resistive divider.", 18 NC, 22 PGND2 (power) "Power Ground Pin. Connect this pin closely to the sources of the bottom N-channel MOSFETs, the (-) terminal of CVCC and the (-) terminal of CIN.", 24 EXTVCC (power) "External Power Input to an Internal Switch Connected to INTVCC. This switch closes and supplies the IC power, bypassing the internal low dropout regulator, whenever EXTVCC is higher than 4.7V. Do not exceed 6V on this pin.", 25 INTVCC (power) "Internal 5V Regulator Output. The control circuits are powered from this voltage. Decouple this pin to PGND with a minimum of 4.7uF low ESR tantalum or ceramic capacitor.", 26 VIN (power) "Main Input Supply. Decouple this pin to PGND with a capacitor (0.1uF to 1uF).", 28 PGND1 (power) "Power Ground Pin. Connect this pin closely to the sources of the bottom N-channel MOSFETs, the (-) terminal of CVCC and the (-) terminal of CIN.", 32 CLKOUT (out) "Clock output with phase changeable by PHASMD to enable usage of multiple LTC3855 in multiphase systems.", 33 PHASMD (in) "This pin can be tied to SGND, tied to INTVCC or left floating. This pin determines the relative phases between the internal controllers as well as the phasing of the CLKOUT signal. See Table 1 in the Operation section.", 34 MODE/PLLIN (in) "This is a dual purpose pin. When external frequency synchronization is not used, this pin selects the operating mode. The pin can be tied to SGND, tied to INTVCC or left floating. SGND enables forced continuous mode. INTVCC (See Datasheet)", 35 FREQ (in) "There is a precision 10uA current flowing out of this pin. A resistor to ground sets a voltage which in turn programs the frequency. Alternatively, this pin can be driven with a DC voltage to vary the frequency of the (See Datasheet)", 41 EP (power) "Signal Ground. All small-signal components and compensation components should connect to this ground, which in turn connects to PGND at one point. Exposed pad must be soldered to PCB, providing a local ground for the control (See Datasheet)"